# Altium footprint library con-commcon.PCBLIB: 18 footprints (part 1 of 2)
Each footprint in its own frame and in the unit in brackets; x right, y up, seen from the top. Pads: shape width x height; smd on the part's side, far side on the other; paste and mask are expansions set on the pad; w line width, h text height; cw(c..) or ccw(c..) is an arc to the next point about the centre after c.
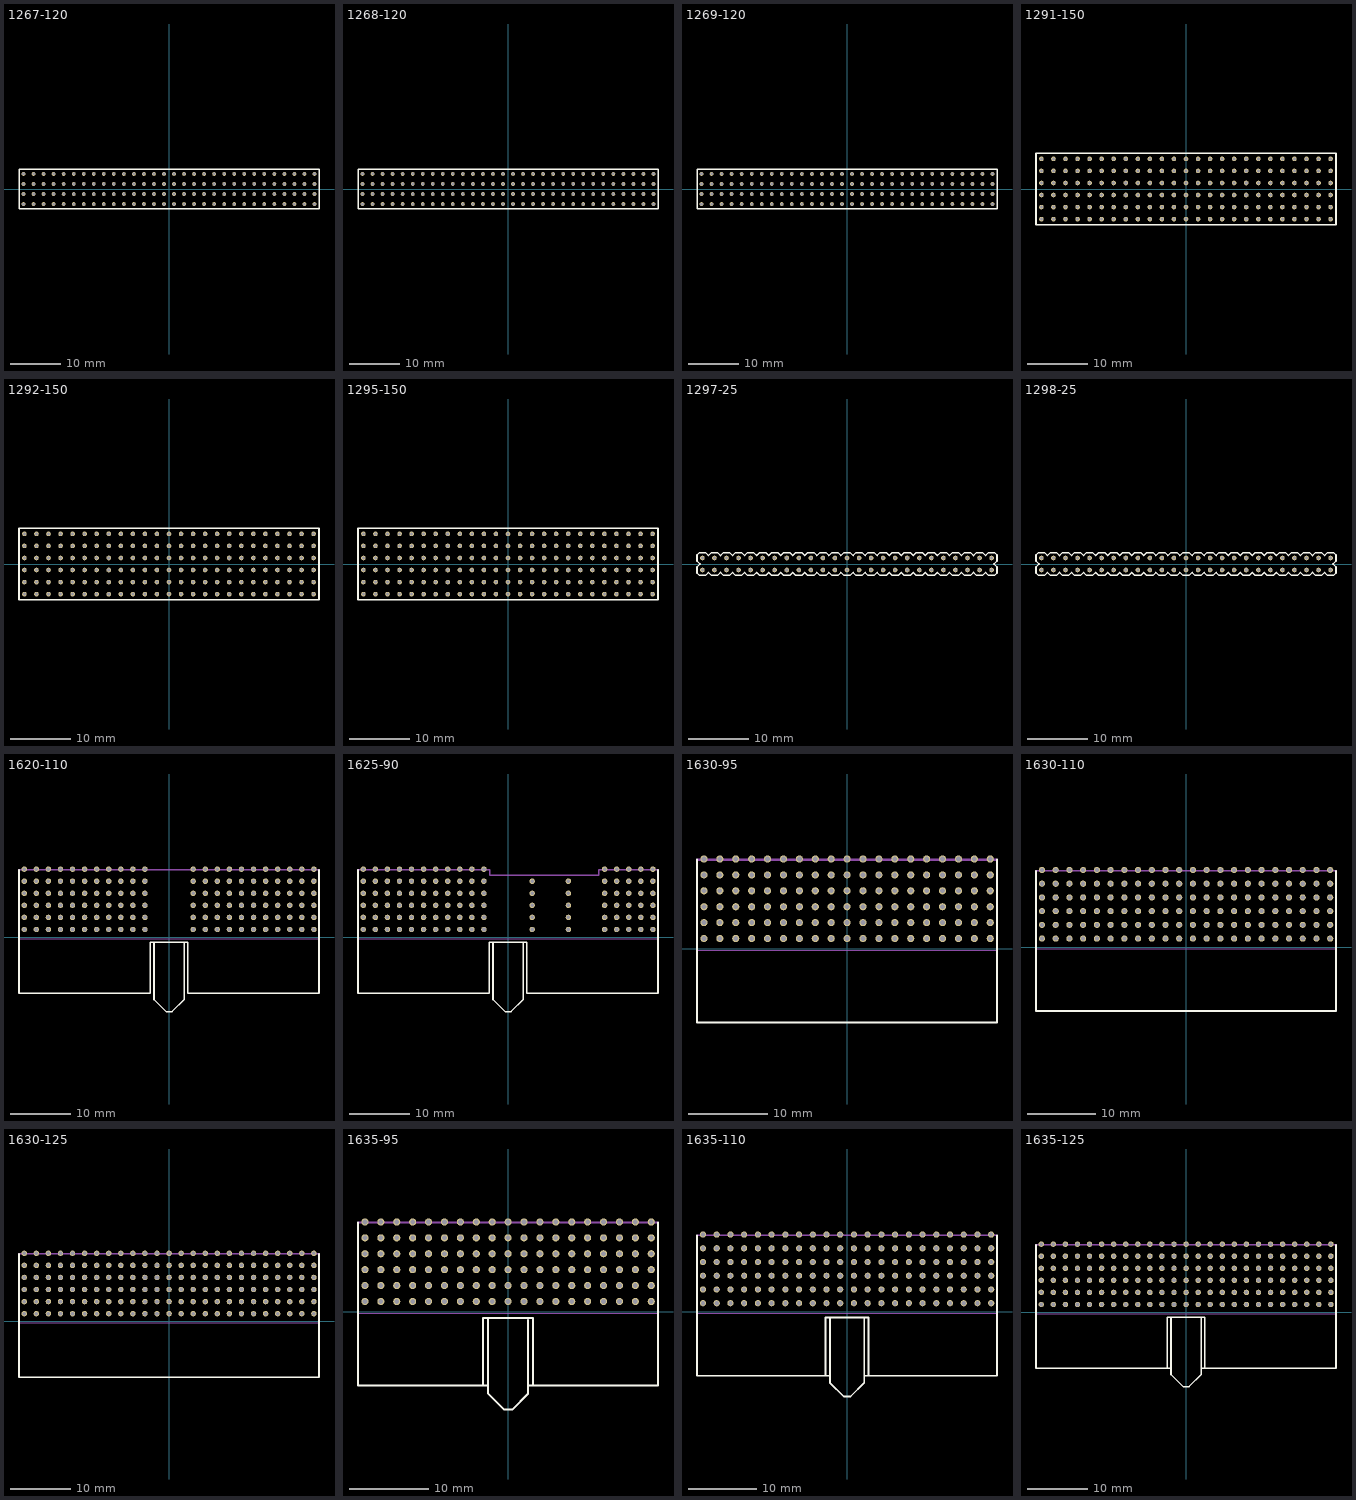
[diagram p0: the footprints below, top view; thin cyan lines are the x and y axes]

## 1267-120 [mil]
pads (120):
  round 30 hole 20: A1(-1141.73,-118.11) A2(-1062.99,-118.11) A3(-984.25,-118.11) A4(-905.51,-118.11) A5(-826.77,-118.11) A6(-748.03,-118.11) A7(-669.29,-118.11) A8(-590.55,-118.11) A9(-511.81,-118.11) A10(-433.07,-118.11) A11(-354.33,-118.11) A12(-275.59,-118.11) A13(-196.85,-118.11) A14(-118.11,-118.11) A15(-39.37,-118.11) A16(39.37,-118.11) A17(118.11,-118.11) A18(196.85,-118.11) A19(275.59,-118.11) A20(354.33,-118.11) A21(433.07,-118.11) A22(511.81,-118.11) A23(590.55,-118.11) A24(669.29,-118.11) A25(748.03,-118.11) A26(826.77,-118.11) A27(905.51,-118.11) A28(984.25,-118.11) A29(1062.99,-118.11) A30(1141.73,-118.11) B1(-1141.73,-39.37) B2(-1062.99,-39.37) B3(-984.25,-39.37) B4(-905.51,-39.37) B5(-826.77,-39.37) B6(-748.03,-39.37) B7(-669.29,-39.37) B8(-590.55,-39.37) B9(-511.81,-39.37) B10(-433.07,-39.37) B11(-354.33,-39.37) B12(-275.59,-39.37) B13(-196.85,-39.37) B14(-118.11,-39.37) B15(-39.37,-39.37) B16(39.37,-39.37) B17(118.11,-39.37) B18(196.85,-39.37) B19(275.59,-39.37) B20(354.33,-39.37) B21(433.07,-39.37) B22(511.81,-39.37) B23(590.55,-39.37) B24(669.29,-39.37) B25(748.03,-39.37) B26(826.77,-39.37) B27(905.51,-39.37) B28(984.25,-39.37) B29(1062.99,-39.37) B30(1141.73,-39.37) C1(-1141.73,39.37) C2(-1062.99,39.37) C3(-984.25,39.37) C4(-905.51,39.37) C5(-826.77,39.37) C6(-748.03,39.37) C7(-669.29,39.37) C8(-590.55,39.37) C9(-511.81,39.37) C10(-433.07,39.37) C11(-354.33,39.37) C12(-275.59,39.37) C13(-196.85,39.37) C14(-118.11,39.37) C15(-39.37,39.37) C16(39.37,39.37) C17(118.11,39.37) C18(196.85,39.37) C19(275.59,39.37) C20(354.33,39.37) C21(433.07,39.37) C22(511.81,39.37) C23(590.55,39.37) C24(669.29,39.37) C25(748.03,39.37) C26(826.77,39.37) C27(905.51,39.37) C28(984.25,39.37) C29(1062.99,39.37) C30(1141.73,39.37) D1(-1141.73,118.11) D2(-1062.99,118.11) D3(-984.25,118.11) D4(-905.51,118.11) D5(-826.77,118.11) D6(-748.03,118.11) D7(-669.29,118.11) D8(-590.55,118.11) D9(-511.81,118.11) D10(-433.07,118.11) D11(-354.33,118.11) D12(-275.59,118.11) D13(-196.85,118.11) D14(-118.11,118.11) D15(-39.37,118.11) D16(39.37,118.11) D17(118.11,118.11) D18(196.85,118.11) D19(275.59,118.11) D20(354.33,118.11) D21(433.07,118.11) D22(511.81,118.11) D23(590.55,118.11) D24(669.29,118.11) D25(748.03,118.11) D26(826.77,118.11) D27(905.51,118.11) D28(984.25,118.11) D29(1062.99,118.11) D30(1141.73,118.11)
Top Overlay:
  lines w10: -1177.17,-153.54 -1177.17,153.54 1177.17,153.54 1177.17,-153.54 -1177.17,-153.54

## 1268-120 [mil]
pads (120):
  round 30 hole 20: A1(-1141.73,-118.11) A2(-1062.99,-118.11) A3(-984.25,-118.11) A4(-905.51,-118.11) A5(-826.77,-118.11) A6(-748.03,-118.11) A7(-669.29,-118.11) A8(-590.55,-118.11) A9(-511.81,-118.11) A10(-433.07,-118.11) A11(-354.33,-118.11) A12(-275.59,-118.11) A13(-196.85,-118.11) A14(-118.11,-118.11) A15(-39.37,-118.11) A16(39.37,-118.11) A17(118.11,-118.11) A18(196.85,-118.11) A19(275.59,-118.11) A20(354.33,-118.11) A21(433.07,-118.11) A22(511.81,-118.11) A23(590.55,-118.11) A24(669.29,-118.11) A25(748.03,-118.11) A26(826.77,-118.11) A27(905.51,-118.11) A28(984.25,-118.11) A29(1062.99,-118.11) A30(1141.73,-118.11) B1(-1141.73,-39.37) B2(-1062.99,-39.37) B3(-984.25,-39.37) B4(-905.51,-39.37) B5(-826.77,-39.37) B6(-748.03,-39.37) B7(-669.29,-39.37) B8(-590.55,-39.37) B9(-511.81,-39.37) B10(-433.07,-39.37) B11(-354.33,-39.37) B12(-275.59,-39.37) B13(-196.85,-39.37) B14(-118.11,-39.37) B15(-39.37,-39.37) B16(39.37,-39.37) B17(118.11,-39.37) B18(196.85,-39.37) B19(275.59,-39.37) B20(354.33,-39.37) B21(433.07,-39.37) B22(511.81,-39.37) B23(590.55,-39.37) B24(669.29,-39.37) B25(748.03,-39.37) B26(826.77,-39.37) B27(905.51,-39.37) B28(984.25,-39.37) B29(1062.99,-39.37) B30(1141.73,-39.37) C1(-1141.73,39.37) C2(-1062.99,39.37) C3(-984.25,39.37) C4(-905.51,39.37) C5(-826.77,39.37) C6(-748.03,39.37) C7(-669.29,39.37) C8(-590.55,39.37) C9(-511.81,39.37) C10(-433.07,39.37) C11(-354.33,39.37) C12(-275.59,39.37) C13(-196.85,39.37) C14(-118.11,39.37) C15(-39.37,39.37) C16(39.37,39.37) C17(118.11,39.37) C18(196.85,39.37) C19(275.59,39.37) C20(354.33,39.37) C21(433.07,39.37) C22(511.81,39.37) C23(590.55,39.37) C24(669.29,39.37) C25(748.03,39.37) C26(826.77,39.37) C27(905.51,39.37) C28(984.25,39.37) C29(1062.99,39.37) C30(1141.73,39.37) D1(-1141.73,118.11) D2(-1062.99,118.11) D3(-984.25,118.11) D4(-905.51,118.11) D5(-826.77,118.11) D6(-748.03,118.11) D7(-669.29,118.11) D8(-590.55,118.11) D9(-511.81,118.11) D10(-433.07,118.11) D11(-354.33,118.11) D12(-275.59,118.11) D13(-196.85,118.11) D14(-118.11,118.11) D15(-39.37,118.11) D16(39.37,118.11) D17(118.11,118.11) D18(196.85,118.11) D19(275.59,118.11) D20(354.33,118.11) D21(433.07,118.11) D22(511.81,118.11) D23(590.55,118.11) D24(669.29,118.11) D25(748.03,118.11) D26(826.77,118.11) D27(905.51,118.11) D28(984.25,118.11) D29(1062.99,118.11) D30(1141.73,118.11)
Top Overlay:
  lines w10: -1177.17,-153.54 -1177.17,153.54 1177.17,153.54 1177.17,-153.54 -1177.17,-153.54

## 1269-120 [mil]
pads (120):
  round 30 hole 20: A1(-1141.73,-118.11) A2(-1062.99,-118.11) A3(-984.25,-118.11) A4(-905.51,-118.11) A5(-826.77,-118.11) A6(-748.03,-118.11) A7(-669.29,-118.11) A8(-590.55,-118.11) A9(-511.81,-118.11) A10(-433.07,-118.11) A11(-354.33,-118.11) A12(-275.59,-118.11) A13(-196.85,-118.11) A14(-118.11,-118.11) A15(-39.37,-118.11) A16(39.37,-118.11) A17(118.11,-118.11) A18(196.85,-118.11) A19(275.59,-118.11) A20(354.33,-118.11) A21(433.07,-118.11) A22(511.81,-118.11) A23(590.55,-118.11) A24(669.29,-118.11) A25(748.03,-118.11) A26(826.77,-118.11) A27(905.51,-118.11) A28(984.25,-118.11) A29(1062.99,-118.11) A30(1141.73,-118.11) B1(-1141.73,-39.37) B2(-1062.99,-39.37) B3(-984.25,-39.37) B4(-905.51,-39.37) B5(-826.77,-39.37) B6(-748.03,-39.37) B7(-669.29,-39.37) B8(-590.55,-39.37) B9(-511.81,-39.37) B10(-433.07,-39.37) B11(-354.33,-39.37) B12(-275.59,-39.37) B13(-196.85,-39.37) B14(-118.11,-39.37) B15(-39.37,-39.37) B16(39.37,-39.37) B17(118.11,-39.37) B18(196.85,-39.37) B19(275.59,-39.37) B20(354.33,-39.37) B21(433.07,-39.37) B22(511.81,-39.37) B23(590.55,-39.37) B24(669.29,-39.37) B25(748.03,-39.37) B26(826.77,-39.37) B27(905.51,-39.37) B28(984.25,-39.37) B29(1062.99,-39.37) B30(1141.73,-39.37) C1(-1141.73,39.37) C2(-1062.99,39.37) C3(-984.25,39.37) C4(-905.51,39.37) C5(-826.77,39.37) C6(-748.03,39.37) C7(-669.29,39.37) C8(-590.55,39.37) C9(-511.81,39.37) C10(-433.07,39.37) C11(-354.33,39.37) C12(-275.59,39.37) C13(-196.85,39.37) C14(-118.11,39.37) C15(-39.37,39.37) C16(39.37,39.37) C17(118.11,39.37) C18(196.85,39.37) C19(275.59,39.37) C20(354.33,39.37) C21(433.07,39.37) C22(511.81,39.37) C23(590.55,39.37) C24(669.29,39.37) C25(748.03,39.37) C26(826.77,39.37) C27(905.51,39.37) C28(984.25,39.37) C29(1062.99,39.37) C30(1141.73,39.37) D1(-1141.73,118.11) D2(-1062.99,118.11) D3(-984.25,118.11) D4(-905.51,118.11) D5(-826.77,118.11) D6(-748.03,118.11) D7(-669.29,118.11) D8(-590.55,118.11) D9(-511.81,118.11) D10(-433.07,118.11) D11(-354.33,118.11) D12(-275.59,118.11) D13(-196.85,118.11) D14(-118.11,118.11) D15(-39.37,118.11) D16(39.37,118.11) D17(118.11,118.11) D18(196.85,118.11) D19(275.59,118.11) D20(354.33,118.11) D21(433.07,118.11) D22(511.81,118.11) D23(590.55,118.11) D24(669.29,118.11) D25(748.03,118.11) D26(826.77,118.11) D27(905.51,118.11) D28(984.25,118.11) D29(1062.99,118.11) D30(1141.73,118.11)
Top Overlay:
  lines w10: -1177.17,-153.54 -1177.17,153.54 1177.17,153.54 1177.17,-153.54 -1177.17,-153.54

## 1291-150 [mil]
pads (150):
  round 30 hole 20: A1(-944.88,-196.85) A2(-866.14,-196.85) A3(-787.4,-196.85) A4(-708.66,-196.85) A5(-629.92,-196.85) A6(-551.18,-196.85) A7(-472.44,-196.85) A8(-393.7,-196.85) A9(-314.96,-196.85) A10(-236.22,-196.85) A11(-157.48,-196.85) A12(-78.74,-196.85) A13(0,-196.85) A14(78.74,-196.85) A15(157.48,-196.85) A16(236.22,-196.85) A17(314.96,-196.85) A18(393.7,-196.85) A19(472.44,-196.85) A20(551.18,-196.85) A21(629.92,-196.85) A22(708.66,-196.85) A23(787.4,-196.85) A24(866.14,-196.85) A25(944.88,-196.85) B1(-944.88,-118.11) B2(-866.14,-118.11) B3(-787.4,-118.11) B4(-708.66,-118.11) B5(-629.92,-118.11) B6(-551.18,-118.11) B7(-472.44,-118.11) B8(-393.7,-118.11) B9(-314.96,-118.11) B10(-236.22,-118.11) B11(-157.48,-118.11) B12(-78.74,-118.11) B13(0,-118.11) B14(78.74,-118.11) B15(157.48,-118.11) B16(236.22,-118.11) B17(314.96,-118.11) B18(393.7,-118.11) B19(472.44,-118.11) B20(551.18,-118.11) B21(629.92,-118.11) B22(708.66,-118.11) B23(787.4,-118.11) B24(866.14,-118.11) B25(944.88,-118.11) C1(-944.88,-39.37) C2(-866.14,-39.37) C3(-787.4,-39.37) C4(-708.66,-39.37) C5(-629.92,-39.37) C6(-551.18,-39.37) C7(-472.44,-39.37) C8(-393.7,-39.37) C9(-314.96,-39.37) C10(-236.22,-39.37) C11(-157.48,-39.37) C12(-78.74,-39.37) C13(0,-39.37) C14(78.74,-39.37) C15(157.48,-39.37) C16(236.22,-39.37) C17(314.96,-39.37) C18(393.7,-39.37) C19(472.44,-39.37) C20(551.18,-39.37) C21(629.92,-39.37) C22(708.66,-39.37) C23(787.4,-39.37) C24(866.14,-39.37) C25(944.88,-39.37) D1(-944.88,39.37) D2(-866.14,39.37) D3(-787.4,39.37) D4(-708.66,39.37) D5(-629.92,39.37) D6(-551.18,39.37) D7(-472.44,39.37) D8(-393.7,39.37) D9(-314.96,39.37) D10(-236.22,39.37) D11(-157.48,39.37) D12(-78.74,39.37) D13(0,39.37) D14(78.74,39.37) D15(157.48,39.37) D16(236.22,39.37) D17(314.96,39.37) D18(393.7,39.37) D19(472.44,39.37) D20(551.18,39.37) D21(629.92,39.37) D22(708.66,39.37) D23(787.4,39.37) D24(866.14,39.37) D25(944.88,39.37) E1(-944.88,118.11) E2(-866.14,118.11) E3(-787.4,118.11) E4(-708.66,118.11) E5(-629.92,118.11) E6(-551.18,118.11) E7(-472.44,118.11) E8(-393.7,118.11) E9(-314.96,118.11) E10(-236.22,118.11) E11(-157.48,118.11) E12(-78.74,118.11) E13(0,118.11) E14(78.74,118.11) E15(157.48,118.11) E16(236.22,118.11) E17(314.96,118.11) E18(393.7,118.11) E19(472.44,118.11) E20(551.18,118.11) E21(629.92,118.11) E22(708.66,118.11) E23(787.4,118.11) E24(866.14,118.11) E25(944.88,118.11) F1(-944.88,196.85) F2(-866.14,196.85) F3(-787.4,196.85) F4(-708.66,196.85) F5(-629.92,196.85) F6(-551.18,196.85) F7(-472.44,196.85) F8(-393.7,196.85) F9(-314.96,196.85) F10(-236.22,196.85) F11(-157.48,196.85) F12(-78.74,196.85) F13(0,196.85) F14(78.74,196.85) F15(157.48,196.85) F16(236.22,196.85) F17(314.96,196.85) F18(393.7,196.85) F19(472.44,196.85) F20(551.18,196.85) F21(629.92,196.85) F22(708.66,196.85) F23(787.4,196.85) F24(866.14,196.85) F25(944.88,196.85)
Top Overlay:
  lines w10: -980.32,-232.28 -980.32,232.28 980.32,232.28 980.32,-232.28 -980.32,-232.28

## 1292-150 [mil]
pads (150):
  round 30 hole 20: A1(-944.88,-196.85) A2(-866.14,-196.85) A3(-787.4,-196.85) A4(-708.66,-196.85) A5(-629.92,-196.85) A6(-551.18,-196.85) A7(-472.44,-196.85) A8(-393.7,-196.85) A9(-314.96,-196.85) A10(-236.22,-196.85) A11(-157.48,-196.85) A12(-78.74,-196.85) A13(0,-196.85) A14(78.74,-196.85) A15(157.48,-196.85) A16(236.22,-196.85) A17(314.96,-196.85) A18(393.7,-196.85) A19(472.44,-196.85) A20(551.18,-196.85) A21(629.92,-196.85) A22(708.66,-196.85) A23(787.4,-196.85) A24(866.14,-196.85) A25(944.88,-196.85) B1(-944.88,-118.11) B2(-866.14,-118.11) B3(-787.4,-118.11) B4(-708.66,-118.11) B5(-629.92,-118.11) B6(-551.18,-118.11) B7(-472.44,-118.11) B8(-393.7,-118.11) B9(-314.96,-118.11) B10(-236.22,-118.11) B11(-157.48,-118.11) B12(-78.74,-118.11) B13(0,-118.11) B14(78.74,-118.11) B15(157.48,-118.11) B16(236.22,-118.11) B17(314.96,-118.11) B18(393.7,-118.11) B19(472.44,-118.11) B20(551.18,-118.11) B21(629.92,-118.11) B22(708.66,-118.11) B23(787.4,-118.11) B24(866.14,-118.11) B25(944.88,-118.11) C1(-944.88,-39.37) C2(-866.14,-39.37) C3(-787.4,-39.37) C4(-708.66,-39.37) C5(-629.92,-39.37) C6(-551.18,-39.37) C7(-472.44,-39.37) C8(-393.7,-39.37) C9(-314.96,-39.37) C10(-236.22,-39.37) C11(-157.48,-39.37) C12(-78.74,-39.37) C13(0,-39.37) C14(78.74,-39.37) C15(157.48,-39.37) C16(236.22,-39.37) C17(314.96,-39.37) C18(393.7,-39.37) C19(472.44,-39.37) C20(551.18,-39.37) C21(629.92,-39.37) C22(708.66,-39.37) C23(787.4,-39.37) C24(866.14,-39.37) C25(944.88,-39.37) D1(-944.88,39.37) D2(-866.14,39.37) D3(-787.4,39.37) D4(-708.66,39.37) D5(-629.92,39.37) D6(-551.18,39.37) D7(-472.44,39.37) D8(-393.7,39.37) D9(-314.96,39.37) D10(-236.22,39.37) D11(-157.48,39.37) D12(-78.74,39.37) D13(0,39.37) D14(78.74,39.37) D15(157.48,39.37) D16(236.22,39.37) D17(314.96,39.37) D18(393.7,39.37) D19(472.44,39.37) D20(551.18,39.37) D21(629.92,39.37) D22(708.66,39.37) D23(787.4,39.37) D24(866.14,39.37) D25(944.88,39.37) E1(-944.88,118.11) E2(-866.14,118.11) E3(-787.4,118.11) E4(-708.66,118.11) E5(-629.92,118.11) E6(-551.18,118.11) E7(-472.44,118.11) E8(-393.7,118.11) E9(-314.96,118.11) E10(-236.22,118.11) E11(-157.48,118.11) E12(-78.74,118.11) E13(0,118.11) E14(78.74,118.11) E15(157.48,118.11) E16(236.22,118.11) E17(314.96,118.11) E18(393.7,118.11) E19(472.44,118.11) E20(551.18,118.11) E21(629.92,118.11) E22(708.66,118.11) E23(787.4,118.11) E24(866.14,118.11) E25(944.88,118.11) F1(-944.88,196.85) F2(-866.14,196.85) F3(-787.4,196.85) F4(-708.66,196.85) F5(-629.92,196.85) F6(-551.18,196.85) F7(-472.44,196.85) F8(-393.7,196.85) F9(-314.96,196.85) F10(-236.22,196.85) F11(-157.48,196.85) F12(-78.74,196.85) F13(0,196.85) F14(78.74,196.85) F15(157.48,196.85) F16(236.22,196.85) F17(314.96,196.85) F18(393.7,196.85) F19(472.44,196.85) F20(551.18,196.85) F21(629.92,196.85) F22(708.66,196.85) F23(787.4,196.85) F24(866.14,196.85) F25(944.88,196.85)
Top Overlay:
  lines w10: -980.32,-232.28 -980.32,232.28 980.32,232.28 980.32,-232.28 -980.32,-232.28

## 1295-150 [mil]
pads (150):
  round 30 hole 20: A1(-944.88,-196.85) A2(-866.14,-196.85) A3(-787.4,-196.85) A4(-708.66,-196.85) A5(-629.92,-196.85) A6(-551.18,-196.85) A7(-472.44,-196.85) A8(-393.7,-196.85) A9(-314.96,-196.85) A10(-236.22,-196.85) A11(-157.48,-196.85) A12(-78.74,-196.85) A13(0,-196.85) A14(78.74,-196.85) A15(157.48,-196.85) A16(236.22,-196.85) A17(314.96,-196.85) A18(393.7,-196.85) A19(472.44,-196.85) A20(551.18,-196.85) A21(629.92,-196.85) A22(708.66,-196.85) A23(787.4,-196.85) A24(866.14,-196.85) A25(944.88,-196.85) B1(-944.88,-118.11) B2(-866.14,-118.11) B3(-787.4,-118.11) B4(-708.66,-118.11) B5(-629.92,-118.11) B6(-551.18,-118.11) B7(-472.44,-118.11) B8(-393.7,-118.11) B9(-314.96,-118.11) B10(-236.22,-118.11) B11(-157.48,-118.11) B12(-78.74,-118.11) B13(0,-118.11) B14(78.74,-118.11) B15(157.48,-118.11) B16(236.22,-118.11) B17(314.96,-118.11) B18(393.7,-118.11) B19(472.44,-118.11) B20(551.18,-118.11) B21(629.92,-118.11) B22(708.66,-118.11) B23(787.4,-118.11) B24(866.14,-118.11) B25(944.88,-118.11) C1(-944.88,-39.37) C2(-866.14,-39.37) C3(-787.4,-39.37) C4(-708.66,-39.37) C5(-629.92,-39.37) C6(-551.18,-39.37) C7(-472.44,-39.37) C8(-393.7,-39.37) C9(-314.96,-39.37) C10(-236.22,-39.37) C11(-157.48,-39.37) C12(-78.74,-39.37) C13(0,-39.37) C14(78.74,-39.37) C15(157.48,-39.37) C16(236.22,-39.37) C17(314.96,-39.37) C18(393.7,-39.37) C19(472.44,-39.37) C20(551.18,-39.37) C21(629.92,-39.37) C22(708.66,-39.37) C23(787.4,-39.37) C24(866.14,-39.37) C25(944.88,-39.37) D1(-944.88,39.37) D2(-866.14,39.37) D3(-787.4,39.37) D4(-708.66,39.37) D5(-629.92,39.37) D6(-551.18,39.37) D7(-472.44,39.37) D8(-393.7,39.37) D9(-314.96,39.37) D10(-236.22,39.37) D11(-157.48,39.37) D12(-78.74,39.37) D13(0,39.37) D14(78.74,39.37) D15(157.48,39.37) D16(236.22,39.37) D17(314.96,39.37) D18(393.7,39.37) D19(472.44,39.37) D20(551.18,39.37) D21(629.92,39.37) D22(708.66,39.37) D23(787.4,39.37) D24(866.14,39.37) D25(944.88,39.37) E1(-944.88,118.11) E2(-866.14,118.11) E3(-787.4,118.11) E4(-708.66,118.11) E5(-629.92,118.11) E6(-551.18,118.11) E7(-472.44,118.11) E8(-393.7,118.11) E9(-314.96,118.11) E10(-236.22,118.11) E11(-157.48,118.11) E12(-78.74,118.11) E13(0,118.11) E14(78.74,118.11) E15(157.48,118.11) E16(236.22,118.11) E17(314.96,118.11) E18(393.7,118.11) E19(472.44,118.11) E20(551.18,118.11) E21(629.92,118.11) E22(708.66,118.11) E23(787.4,118.11) E24(866.14,118.11) E25(944.88,118.11) F1(-944.88,196.85) F2(-866.14,196.85) F3(-787.4,196.85) F4(-708.66,196.85) F5(-629.92,196.85) F6(-551.18,196.85) F7(-472.44,196.85) F8(-393.7,196.85) F9(-314.96,196.85) F10(-236.22,196.85) F11(-157.48,196.85) F12(-78.74,196.85) F13(0,196.85) F14(78.74,196.85) F15(157.48,196.85) F16(236.22,196.85) F17(314.96,196.85) F18(393.7,196.85) F19(472.44,196.85) F20(551.18,196.85) F21(629.92,196.85) F22(708.66,196.85) F23(787.4,196.85) F24(866.14,196.85) F25(944.88,196.85)
Top Overlay:
  lines w10: -980.32,-232.28 -980.32,232.28 980.32,232.28 980.32,-232.28 -980.32,-232.28

## 1297-25 [mil]
pads (50):
  round 30 hole 20: A1(-944.88,-39.37) A2(-866.14,-39.37) A3(-787.4,-39.37) A4(-708.66,-39.37) A5(-629.92,-39.37) A6(-551.18,-39.37) A7(-472.44,-39.37) A8(-393.7,-39.37) A9(-314.96,-39.37) A10(-236.22,-39.37) A11(-157.48,-39.37) A12(-78.74,-39.37) A13(0,-39.37) A14(78.74,-39.37) A15(157.48,-39.37) A16(236.22,-39.37) A17(314.96,-39.37) A18(393.7,-39.37) A19(472.44,-39.37) A20(551.18,-39.37) A21(629.92,-39.37) A22(708.66,-39.37) A23(787.4,-39.37) A24(866.14,-39.37) A25(944.88,-39.37) B1(-944.88,39.37) B2(-866.14,39.37) B3(-787.4,39.37) B4(-708.66,39.37) B5(-629.92,39.37) B6(-551.18,39.37) B7(-472.44,39.37) B8(-393.7,39.37) B9(-314.96,39.37) B10(-236.22,39.37) B11(-157.48,39.37) B12(-78.74,39.37) B13(0,39.37) B14(78.74,39.37) B15(157.48,39.37) B16(236.22,39.37) B17(314.96,39.37) B18(393.7,39.37) B19(472.44,39.37) B20(551.18,39.37) B21(629.92,39.37) B22(708.66,39.37) B23(787.4,39.37) B24(866.14,39.37) B25(944.88,39.37)
Top Overlay:
  drawing of 158 lines, arcs and shapes, not listed

## 1298-25 [mil]
pads (50):
  round 30 hole 20: A1(-944.88,-39.37) A2(-866.14,-39.37) A3(-787.4,-39.37) A4(-708.66,-39.37) A5(-629.92,-39.37) A6(-551.18,-39.37) A7(-472.44,-39.37) A8(-393.7,-39.37) A9(-314.96,-39.37) A10(-236.22,-39.37) A11(-157.48,-39.37) A12(-78.74,-39.37) A13(0,-39.37) A14(78.74,-39.37) A15(157.48,-39.37) A16(236.22,-39.37) A17(314.96,-39.37) A18(393.7,-39.37) A19(472.44,-39.37) A20(551.18,-39.37) A21(629.92,-39.37) A22(708.66,-39.37) A23(787.4,-39.37) A24(866.14,-39.37) A25(944.88,-39.37) B1(-944.88,39.37) B2(-866.14,39.37) B3(-787.4,39.37) B4(-708.66,39.37) B5(-629.92,39.37) B6(-551.18,39.37) B7(-472.44,39.37) B8(-393.7,39.37) B9(-314.96,39.37) B10(-236.22,39.37) B11(-157.48,39.37) B12(-78.74,39.37) B13(0,39.37) B14(78.74,39.37) B15(157.48,39.37) B16(236.22,39.37) B17(314.96,39.37) B18(393.7,39.37) B19(472.44,39.37) B20(551.18,39.37) B21(629.92,39.37) B22(708.66,39.37) B23(787.4,39.37) B24(866.14,39.37) B25(944.88,39.37)
Top Overlay:
  drawing of 158 lines, arcs and shapes, not listed

## 1620-110 [mm]
pads (132):
  round 0.9 hole 0.6: A1(24,1.27) A2(22,1.27) A3(20,1.27) A4(18,1.27) A5(16,1.27) A6(14,1.27) A7(12,1.27) A8(10,1.27) A9(8,1.27) A10(6,1.27) A11(4,1.27) A12(-4,1.27) A13(-6,1.27) A14(-8,1.27) A15(-10,1.27) A16(-12,1.27) A17(-14,1.27) A18(-16,1.27) A19(-18,1.27) A20(-20,1.27) A21(-22,1.27) A22(-24,1.27) B1(24,3.27) B2(22,3.27) B3(20,3.27) B4(18,3.27) B5(16,3.27) B6(14,3.27) B7(12,3.27) B8(10,3.27) B9(8,3.27) B10(6,3.27) B11(4,3.27) B12(-4,3.27) B13(-6,3.27) B14(-8,3.27) B15(-10,3.27) B16(-12,3.27) B17(-14,3.27) B18(-16,3.27) B19(-18,3.27) B20(-20,3.27) B21(-22,3.27) B22(-24,3.27) C1(24,5.27) C2(22,5.27) C3(20,5.27) C4(18,5.27) C5(16,5.27) C6(14,5.27) C7(12,5.27) C8(10,5.27) C9(8,5.27) C10(6,5.27) C11(4,5.27) C12(-4,5.27) C13(-6,5.27) C14(-8,5.27) C15(-10,5.27) C16(-12,5.27) C17(-14,5.27) C18(-16,5.27) C19(-18,5.27) C20(-20,5.27) C21(-22,5.27) C22(-24,5.27) D1(24,7.27) D2(22,7.27) D3(20,7.27) D4(18,7.27) D5(16,7.27) D6(14,7.27) D7(12,7.27) D8(10,7.27) D9(8,7.27) D10(6,7.27) D11(4,7.27) D12(-4,7.27) D13(-6,7.27) D14(-8,7.27) D15(-10,7.27) D16(-12,7.27) D17(-14,7.27) D18(-16,7.27) D19(-18,7.27) D20(-20,7.27) D21(-22,7.27) D22(-24,7.27) E1(24,9.27) E2(22,9.27) E3(20,9.27) E4(18,9.27) E5(16,9.27) E6(14,9.27) E7(12,9.27) E8(10,9.27) E9(8,9.27) E10(6,9.27) E11(4,9.27) E12(-4,9.27) E13(-6,9.27) E14(-8,9.27) E15(-10,9.27) E16(-12,9.27) E17(-14,9.27) E18(-16,9.27) E19(-18,9.27) E20(-20,9.27) E21(-22,9.27) E22(-24,9.27) F1(24,11.27) F2(22,11.27) F3(20,11.27) F4(18,11.27) F5(16,11.27) F6(14,11.27) F7(12,11.27) F8(10,11.27) F9(8,11.27) F10(6,11.27) F11(4,11.27) F12(-4,11.27) F13(-6,11.27) F14(-8,11.27) F15(-10,11.27) F16(-12,11.27) F17(-14,11.27) F18(-16,11.27) F19(-18,11.27) F20(-20,11.27) F21(-22,11.27) F22(-24,11.27)
Top Overlay:
  lines w0.254: -24.872,11.176 -24.872,-9.296 -3.153,-9.296 -3.153,-0.824 ; -3.1,-0.83 3.1,-0.83 ; -2.5,-0.93 -2.5,-10.33 -0.5,-12.33 0.5,-12.33 2.5,-10.33 2.5,-1.03 ; 3.128,-0.824 3.128,-9.296 24.847,-9.296 24.847,11.176
Mechanical 1:
  lines w0.051: -24.789,-0.23 24.789,-0.23
Mechanical 16:
  lines w0.254: -24.872,11.176 24.847,11.176

## 1625-90 [mm]
pads (106):
  round 0.9 hole 0.6: A1(24,1.27) A2(22,1.27) A3(20,1.27) A4(18,1.27) A5(16,1.27) A8(10,1.27) A11(4,1.27) A12(-4,1.27) A13(-6,1.27) A14(-8,1.27) A15(-10,1.27) A16(-12,1.27) A17(-14,1.27) A18(-16,1.27) A19(-18,1.27) A20(-20,1.27) A21(-22,1.27) A22(-24,1.27) B1(24,3.27) B2(22,3.27) B3(20,3.27) B4(18,3.27) B5(16,3.27) B8(10,3.27) B11(4,3.27) B12(-4,3.27) B13(-6,3.27) B14(-8,3.27) B15(-10,3.27) B16(-12,3.27) B17(-14,3.27) B18(-16,3.27) B19(-18,3.27) B20(-20,3.27) B21(-22,3.27) B22(-24,3.27) C1(24,5.27) C2(22,5.27) C3(20,5.27) C4(18,5.27) C5(16,5.27) C8(10,5.27) C11(4,5.27) C12(-4,5.27) C13(-6,5.27) C14(-8,5.27) C15(-10,5.27) C16(-12,5.27) C17(-14,5.27) C18(-16,5.27) C19(-18,5.27) C20(-20,5.27) C21(-22,5.27) C22(-24,5.27) D1(24,7.27) D2(22,7.27) D3(20,7.27) D4(18,7.27) D5(16,7.27) D8(10,7.27) D11(4,7.27) D12(-4,7.27) D13(-6,7.27) D14(-8,7.27) D15(-10,7.27) D16(-12,7.27) D17(-14,7.27) D18(-16,7.27) D19(-18,7.27) D20(-20,7.27) D21(-22,7.27) D22(-24,7.27) E1(24,9.27) E2(22,9.27) E3(20,9.27) E4(18,9.27) E5(16,9.27) E8(10,9.27) E11(4,9.27) E12(-4,9.27) E13(-6,9.27) E14(-8,9.27) E15(-10,9.27) E16(-12,9.27) E17(-14,9.27) E18(-16,9.27) E19(-18,9.27) E20(-20,9.27) E21(-22,9.27) E22(-24,9.27) F1(24,11.27) F2(22,11.27) F3(20,11.27) F4(18,11.27) F5(16,11.27) F12(-4,11.27) F13(-6,11.27) F14(-8,11.27) F15(-10,11.27) F16(-12,11.27) F17(-14,11.27) F18(-16,11.27) F19(-18,11.27) F20(-20,11.27) F21(-22,11.27) F22(-24,11.27)
Top Overlay:
  lines w0.254: -24.872,11.176 -24.872,-9.296 -3.153,-9.296 -3.153,-0.824 ; -3.1,-0.83 3.1,-0.83 ; -2.5,-0.93 -2.5,-10.33 -0.5,-12.33 0.5,-12.33 2.5,-10.33 2.5,-1.03 ; 3.128,-0.824 3.128,-9.296 24.847,-9.296 24.847,11.176
Mechanical 1:
  lines w0.051: -24.789,-0.23 24.789,-0.23
Mechanical 16:
  lines w0.254: -24.872,11.176 -3,11.176 -3,10.27 15,10.27 15,11.176 24.847,11.176

## 1630-95 [mm]
pads (114):
  round 0.9 hole 0.6: A1(18,1.27) A2(16,1.27) A3(14,1.27) A4(12,1.27) A5(10,1.27) A6(8,1.27) A7(6,1.27) A8(4,1.27) A9(2,1.27) A10(0,1.27) A11(-2,1.27) A12(-4,1.27) A13(-6,1.27) A14(-8,1.27) A15(-10,1.27) A16(-12,1.27) A17(-14,1.27) A18(-16,1.27) A19(-18,1.27) B1(18,3.27) B2(16,3.27) B3(14,3.27) B4(12,3.27) B5(10,3.27) B6(8,3.27) B7(6,3.27) B8(4,3.27) B9(2,3.27) B10(0,3.27) B11(-2,3.27) B12(-4,3.27) B13(-6,3.27) B14(-8,3.27) B15(-10,3.27) B16(-12,3.27) B17(-14,3.27) B18(-16,3.27) B19(-18,3.27) C1(18,5.27) C2(16,5.27) C3(14,5.27) C4(12,5.27) C5(10,5.27) C6(8,5.27) C7(6,5.27) C8(4,5.27) C9(2,5.27) C10(0,5.27) C11(-2,5.27) C12(-4,5.27) C13(-6,5.27) C14(-8,5.27) C15(-10,5.27) C16(-12,5.27) C17(-14,5.27) C18(-16,5.27) C19(-18,5.27) D1(18,7.27) D2(16,7.27) D3(14,7.27) D4(12,7.27) D5(10,7.27) D6(8,7.27) D7(6,7.27) D8(4,7.27) D9(2,7.27) D10(0,7.27) D11(-2,7.27) D12(-4,7.27) D13(-6,7.27) D14(-8,7.27) D15(-10,7.27) D16(-12,7.27) D17(-14,7.27) D18(-16,7.27) D19(-18,7.27) E1(18,9.27) E2(16,9.27) E3(14,9.27) E4(12,9.27) E5(10,9.27) E6(8,9.27) E7(6,9.27) E8(4,9.27) E9(2,9.27) E10(0,9.27) E11(-2,9.27) E12(-4,9.27) E13(-6,9.27) E14(-8,9.27) E15(-10,9.27) E16(-12,9.27) E17(-14,9.27) E18(-16,9.27) E19(-18,9.27) F1(18,11.27) F2(16,11.27) F3(14,11.27) F4(12,11.27) F5(10,11.27) F6(8,11.27) F7(6,11.27) F8(4,11.27) F9(2,11.27) F10(0,11.27) F11(-2,11.27) F12(-4,11.27) F13(-6,11.27) F14(-8,11.27) F15(-10,11.27) F16(-12,11.27) F17(-14,11.27) F18(-16,11.27) F19(-18,11.27)
Top Overlay:
  lines w0.254: -18.872,11.176 -18.872,-9.296 18.847,-9.296 18.847,11.176
Mechanical 1:
  lines w0.051: -18.789,-0.23 18.789,-0.23
Mechanical 16:
  lines w0.254: -18.872,11.176 18.847,11.176

## 1630-110 [mm]
pads (132):
  round 0.9 hole 0.6: A1(21,1.27) A2(19,1.27) A3(17,1.27) A4(15,1.27) A5(13,1.27) A6(11,1.27) A7(9,1.27) A8(7,1.27) A9(5,1.27) A10(3,1.27) A11(1,1.27) A12(-1,1.27) A13(-3,1.27) A14(-5,1.27) A15(-7,1.27) A16(-9,1.27) A17(-11,1.27) A18(-13,1.27) A19(-15,1.27) A20(-17,1.27) A21(-19,1.27) A22(-21,1.27) B1(21,3.27) B2(19,3.27) B3(17,3.27) B4(15,3.27) B5(13,3.27) B6(11,3.27) B7(9,3.27) B8(7,3.27) B9(5,3.27) B10(3,3.27) B11(1,3.27) B12(-1,3.27) B13(-3,3.27) B14(-5,3.27) B15(-7,3.27) B16(-9,3.27) B17(-11,3.27) B18(-13,3.27) B19(-15,3.27) B20(-17,3.27) B21(-19,3.27) B22(-21,3.27) C1(21,5.27) C2(19,5.27) C3(17,5.27) C4(15,5.27) C5(13,5.27) C6(11,5.27) C7(9,5.27) C8(7,5.27) C9(5,5.27) C10(3,5.27) C11(1,5.27) C12(-1,5.27) C13(-3,5.27) C14(-5,5.27) C15(-7,5.27) C16(-9,5.27) C17(-11,5.27) C18(-13,5.27) C19(-15,5.27) C20(-17,5.27) C21(-19,5.27) C22(-21,5.27) D1(21,7.27) D2(19,7.27) D3(17,7.27) D4(15,7.27) D5(13,7.27) D6(11,7.27) D7(9,7.27) D8(7,7.27) D9(5,7.27) D10(3,7.27) D11(1,7.27) D12(-1,7.27) D13(-3,7.27) D14(-5,7.27) D15(-7,7.27) D16(-9,7.27) D17(-11,7.27) D18(-13,7.27) D19(-15,7.27) D20(-17,7.27) D21(-19,7.27) D22(-21,7.27) E1(21,9.27) E2(19,9.27) E3(17,9.27) E4(15,9.27) E5(13,9.27) E6(11,9.27) E7(9,9.27) E8(7,9.27) E9(5,9.27) E10(3,9.27) E11(1,9.27) E12(-1,9.27) E13(-3,9.27) E14(-5,9.27) E15(-7,9.27) E16(-9,9.27) E17(-11,9.27) E18(-13,9.27) E19(-15,9.27) E20(-17,9.27) E21(-19,9.27) E22(-21,9.27) F1(21,11.27) F2(19,11.27) F3(17,11.27) F4(15,11.27) F5(13,11.27) F6(11,11.27) F7(9,11.27) F8(7,11.27) F9(5,11.27) F10(3,11.27) F11(1,11.27) F12(-1,11.27) F13(-3,11.27) F14(-5,11.27) F15(-7,11.27) F16(-9,11.27) F17(-11,11.27) F18(-13,11.27) F19(-15,11.27) F20(-17,11.27) F21(-19,11.27) F22(-21,11.27)
Top Overlay:
  lines w0.254: -21.872,11.176 -21.872,-9.296 21.847,-9.296 21.847,11.176
Mechanical 1:
  lines w0.051: -21.789,-0.23 21.789,-0.23
Mechanical 16:
  lines w0.254: -21.872,11.176 21.847,11.176

## 1630-125 [mm]
pads (150):
  round 0.9 hole 0.6: A1(24,1.27) A2(22,1.27) A3(20,1.27) A4(18,1.27) A5(16,1.27) A6(14,1.27) A7(12,1.27) A8(10,1.27) A9(8,1.27) A10(6,1.27) A11(4,1.27) A12(2,1.27) A13(0,1.27) A14(-2,1.27) A15(-4,1.27) A16(-6,1.27) A17(-8,1.27) A18(-10,1.27) A19(-12,1.27) A20(-14,1.27) A21(-16,1.27) A22(-18,1.27) A23(-20,1.27) A24(-22,1.27) A25(-24,1.27) B1(24,3.27) B2(22,3.27) B3(20,3.27) B4(18,3.27) B5(16,3.27) B6(14,3.27) B7(12,3.27) B8(10,3.27) B9(8,3.27) B10(6,3.27) B11(4,3.27) B12(2,3.27) B13(0,3.27) B14(-2,3.27) B15(-4,3.27) B16(-6,3.27) B17(-8,3.27) B18(-10,3.27) B19(-12,3.27) B20(-14,3.27) B21(-16,3.27) B22(-18,3.27) B23(-20,3.27) B24(-22,3.27) B25(-24,3.27) C1(24,5.27) C2(22,5.27) C3(20,5.27) C4(18,5.27) C5(16,5.27) C6(14,5.27) C7(12,5.27) C8(10,5.27) C9(8,5.27) C10(6,5.27) C11(4,5.27) C12(2,5.27) C13(0,5.27) C14(-2,5.27) C15(-4,5.27) C16(-6,5.27) C17(-8,5.27) C18(-10,5.27) C19(-12,5.27) C20(-14,5.27) C21(-16,5.27) C22(-18,5.27) C23(-20,5.27) C24(-22,5.27) C25(-24,5.27) D1(24,7.27) D2(22,7.27) D3(20,7.27) D4(18,7.27) D5(16,7.27) D6(14,7.27) D7(12,7.27) D8(10,7.27) D9(8,7.27) D10(6,7.27) D11(4,7.27) D12(2,7.27) D13(0,7.27) D14(-2,7.27) D15(-4,7.27) D16(-6,7.27) D17(-8,7.27) D18(-10,7.27) D19(-12,7.27) D20(-14,7.27) D21(-16,7.27) D22(-18,7.27) D23(-20,7.27) D24(-22,7.27) D25(-24,7.27) E1(24,9.27) E2(22,9.27) E3(20,9.27) E4(18,9.27) E5(16,9.27) E6(14,9.27) E7(12,9.27) E8(10,9.27) E9(8,9.27) E10(6,9.27) E11(4,9.27) E12(2,9.27) E13(0,9.27) E14(-2,9.27) E15(-4,9.27) E16(-6,9.27) E17(-8,9.27) E18(-10,9.27) E19(-12,9.27) E20(-14,9.27) E21(-16,9.27) E22(-18,9.27) E23(-20,9.27) E24(-22,9.27) E25(-24,9.27) F1(24,11.27) F2(22,11.27) F3(20,11.27) F4(18,11.27) F5(16,11.27) F6(14,11.27) F7(12,11.27) F8(10,11.27) F9(8,11.27) F10(6,11.27) F11(4,11.27) F12(2,11.27) F13(0,11.27) F14(-2,11.27) F15(-4,11.27) F16(-6,11.27) F17(-8,11.27) F18(-10,11.27) F19(-12,11.27) F20(-14,11.27) F21(-16,11.27) F22(-18,11.27) F23(-20,11.27) F24(-22,11.27) F25(-24,11.27)
Top Overlay:
  lines w0.254: -24.872,11.176 -24.872,-9.296 24.847,-9.296 24.847,11.176
Mechanical 1:
  lines w0.051: -24.789,-0.23 24.789,-0.23
Mechanical 16:
  lines w0.254: -24.872,11.176 24.847,11.176

## 1635-95 [mm]
pads (114):
  round 0.9 hole 0.6: A1(18,1.27) A2(16,1.27) A3(14,1.27) A4(12,1.27) A5(10,1.27) A6(8,1.27) A7(6,1.27) A8(4,1.27) A9(2,1.27) A10(0,1.27) A11(-2,1.27) A12(-4,1.27) A13(-6,1.27) A14(-8,1.27) A15(-10,1.27) A16(-12,1.27) A17(-14,1.27) A18(-16,1.27) A19(-18,1.27) B1(18,3.27) B2(16,3.27) B3(14,3.27) B4(12,3.27) B5(10,3.27) B6(8,3.27) B7(6,3.27) B8(4,3.27) B9(2,3.27) B10(0,3.27) B11(-2,3.27) B12(-4,3.27) B13(-6,3.27) B14(-8,3.27) B15(-10,3.27) B16(-12,3.27) B17(-14,3.27) B18(-16,3.27) B19(-18,3.27) C1(18,5.27) C2(16,5.27) C3(14,5.27) C4(12,5.27) C5(10,5.27) C6(8,5.27) C7(6,5.27) C8(4,5.27) C9(2,5.27) C10(0,5.27) C11(-2,5.27) C12(-4,5.27) C13(-6,5.27) C14(-8,5.27) C15(-10,5.27) C16(-12,5.27) C17(-14,5.27) C18(-16,5.27) C19(-18,5.27) D1(18,7.27) D2(16,7.27) D3(14,7.27) D4(12,7.27) D5(10,7.27) D6(8,7.27) D7(6,7.27) D8(4,7.27) D9(2,7.27) D10(0,7.27) D11(-2,7.27) D12(-4,7.27) D13(-6,7.27) D14(-8,7.27) D15(-10,7.27) D16(-12,7.27) D17(-14,7.27) D18(-16,7.27) D19(-18,7.27) E1(18,9.27) E2(16,9.27) E3(14,9.27) E4(12,9.27) E5(10,9.27) E6(8,9.27) E7(6,9.27) E8(4,9.27) E9(2,9.27) E10(0,9.27) E11(-2,9.27) E12(-4,9.27) E13(-6,9.27) E14(-8,9.27) E15(-10,9.27) E16(-12,9.27) E17(-14,9.27) E18(-16,9.27) E19(-18,9.27) F1(18,11.27) F2(16,11.27) F3(14,11.27) F4(12,11.27) F5(10,11.27) F6(8,11.27) F7(6,11.27) F8(4,11.27) F9(2,11.27) F10(0,11.27) F11(-2,11.27) F12(-4,11.27) F13(-6,11.27) F14(-8,11.27) F15(-10,11.27) F16(-12,11.27) F17(-14,11.27) F18(-16,11.27) F19(-18,11.27)
Top Overlay:
  lines w0.254: -18.872,11.176 -18.872,-9.296 -3.153,-9.296 ; -3.153,-0.824 -3.153,-9.296 ; -3.1,-0.83 3.1,-0.83 ; -2.5,-9.296 -3.153,-9.296 ; -2.5,-0.93 -2.5,-10.33 -0.5,-12.33 0.5,-12.33 2.5,-10.33 2.5,-1.03 ; 2.5,-9.296 3.128,-9.296 ; 3.128,-0.824 3.128,-9.296 ; 18.847,11.176 18.847,-9.296 3.128,-9.296
Mechanical 1:
  lines w0.051: -18.789,-0.23 18.789,-0.23
Mechanical 16:
  lines w0.254: -18.872,11.176 18.847,11.176

## 1635-110 [mm]
pads (132):
  round 0.9 hole 0.6: A1(21,1.27) A2(19,1.27) A3(17,1.27) A4(15,1.27) A5(13,1.27) A6(11,1.27) A7(9,1.27) A8(7,1.27) A9(5,1.27) A10(3,1.27) A11(1,1.27) A12(-1,1.27) A13(-3,1.27) A14(-5,1.27) A15(-7,1.27) A16(-9,1.27) A17(-11,1.27) A18(-13,1.27) A19(-15,1.27) A20(-17,1.27) A21(-19,1.27) A22(-21,1.27) B1(21,3.27) B2(19,3.27) B3(17,3.27) B4(15,3.27) B5(13,3.27) B6(11,3.27) B7(9,3.27) B8(7,3.27) B9(5,3.27) B10(3,3.27) B11(1,3.27) B12(-1,3.27) B13(-3,3.27) B14(-5,3.27) B15(-7,3.27) B16(-9,3.27) B17(-11,3.27) B18(-13,3.27) B19(-15,3.27) B20(-17,3.27) B21(-19,3.27) B22(-21,3.27) C1(21,5.27) C2(19,5.27) C3(17,5.27) C4(15,5.27) C5(13,5.27) C6(11,5.27) C7(9,5.27) C8(7,5.27) C9(5,5.27) C10(3,5.27) C11(1,5.27) C12(-1,5.27) C13(-3,5.27) C14(-5,5.27) C15(-7,5.27) C16(-9,5.27) C17(-11,5.27) C18(-13,5.27) C19(-15,5.27) C20(-17,5.27) C21(-19,5.27) C22(-21,5.27) D1(21,7.27) D2(19,7.27) D3(17,7.27) D4(15,7.27) D5(13,7.27) D6(11,7.27) D7(9,7.27) D8(7,7.27) D9(5,7.27) D10(3,7.27) D11(1,7.27) D12(-1,7.27) D13(-3,7.27) D14(-5,7.27) D15(-7,7.27) D16(-9,7.27) D17(-11,7.27) D18(-13,7.27) D19(-15,7.27) D20(-17,7.27) D21(-19,7.27) D22(-21,7.27) E1(21,9.27) E2(19,9.27) E3(17,9.27) E4(15,9.27) E5(13,9.27) E6(11,9.27) E7(9,9.27) E8(7,9.27) E9(5,9.27) E10(3,9.27) E11(1,9.27) E12(-1,9.27) E13(-3,9.27) E14(-5,9.27) E15(-7,9.27) E16(-9,9.27) E17(-11,9.27) E18(-13,9.27) E19(-15,9.27) E20(-17,9.27) E21(-19,9.27) E22(-21,9.27) F1(21,11.27) F2(19,11.27) F3(17,11.27) F4(15,11.27) F5(13,11.27) F6(11,11.27) F7(9,11.27) F8(7,11.27) F9(5,11.27) F10(3,11.27) F11(1,11.27) F12(-1,11.27) F13(-3,11.27) F14(-5,11.27) F15(-7,11.27) F16(-9,11.27) F17(-11,11.27) F18(-13,11.27) F19(-15,11.27) F20(-17,11.27) F21(-19,11.27) F22(-21,11.27)
Top Overlay:
  lines w0.254: -21.872,11.176 -21.872,-9.296 -3.153,-9.296 ; -3.153,-0.824 -3.153,-9.296 ; -3.1,-0.83 3.1,-0.83 ; -2.5,-0.93 -2.5,-9.296 ; 2.5,-1.03 2.5,-9.296 ; 3.128,-0.824 3.128,-9.296 ; 21.847,11.176 21.847,-9.296 3.128,-9.296 ; -3.153,-9.296 -2.5,-9.296 ; -2.5,-9.296 -2.5,-10.33 -0.5,-12.33 0.5,-12.33 2.5,-10.33 2.5,-9.296 ; 2.5,-9.296 3.128,-9.296
Mechanical 1:
  lines w0.051: -21.789,-0.23 21.789,-0.23
Mechanical 16:
  lines w0.254: -21.872,11.176 21.847,11.176

## 1635-125 [mm]
pads (150):
  round 0.9 hole 0.6: A1(24,1.27) A2(22,1.27) A3(20,1.27) A4(18,1.27) A5(16,1.27) A6(14,1.27) A7(12,1.27) A8(10,1.27) A9(8,1.27) A10(6,1.27) A11(4,1.27) A12(2,1.27) A13(0,1.27) A14(-2,1.27) A15(-4,1.27) A16(-6,1.27) A17(-8,1.27) A18(-10,1.27) A19(-12,1.27) A20(-14,1.27) A21(-16,1.27) A22(-18,1.27) A23(-20,1.27) A24(-22,1.27) A25(-24,1.27) B1(24,3.27) B2(22,3.27) B3(20,3.27) B4(18,3.27) B5(16,3.27) B6(14,3.27) B7(12,3.27) B8(10,3.27) B9(8,3.27) B10(6,3.27) B11(4,3.27) B12(2,3.27) B13(0,3.27) B14(-2,3.27) B15(-4,3.27) B16(-6,3.27) B17(-8,3.27) B18(-10,3.27) B19(-12,3.27) B20(-14,3.27) B21(-16,3.27) B22(-18,3.27) B23(-20,3.27) B24(-22,3.27) B25(-24,3.27) C1(24,5.27) C2(22,5.27) C3(20,5.27) C4(18,5.27) C5(16,5.27) C6(14,5.27) C7(12,5.27) C8(10,5.27) C9(8,5.27) C10(6,5.27) C11(4,5.27) C12(2,5.27) C13(0,5.27) C14(-2,5.27) C15(-4,5.27) C16(-6,5.27) C17(-8,5.27) C18(-10,5.27) C19(-12,5.27) C20(-14,5.27) C21(-16,5.27) C22(-18,5.27) C23(-20,5.27) C24(-22,5.27) C25(-24,5.27) D1(24,7.27) D2(22,7.27) D3(20,7.27) D4(18,7.27) D5(16,7.27) D6(14,7.27) D7(12,7.27) D8(10,7.27) D9(8,7.27) D10(6,7.27) D11(4,7.27) D12(2,7.27) D13(0,7.27) D14(-2,7.27) D15(-4,7.27) D16(-6,7.27) D17(-8,7.27) D18(-10,7.27) D19(-12,7.27) D20(-14,7.27) D21(-16,7.27) D22(-18,7.27) D23(-20,7.27) D24(-22,7.27) D25(-24,7.27) E1(24,9.27) E2(22,9.27) E3(20,9.27) E4(18,9.27) E5(16,9.27) E6(14,9.27) E7(12,9.27) E8(10,9.27) E9(8,9.27) E10(6,9.27) E11(4,9.27) E12(2,9.27) E13(0,9.27) E14(-2,9.27) E15(-4,9.27) E16(-6,9.27) E17(-8,9.27) E18(-10,9.27) E19(-12,9.27) E20(-14,9.27) E21(-16,9.27) E22(-18,9.27) E23(-20,9.27) E24(-22,9.27) E25(-24,9.27) F1(24,11.27) F2(22,11.27) F3(20,11.27) F4(18,11.27) F5(16,11.27) F6(14,11.27) F7(12,11.27) F8(10,11.27) F9(8,11.27) F10(6,11.27) F11(4,11.27) F12(2,11.27) F13(0,11.27) F14(-2,11.27) F15(-4,11.27) F16(-6,11.27) F17(-8,11.27) F18(-10,11.27) F19(-12,11.27) F20(-14,11.27) F21(-16,11.27) F22(-18,11.27) F23(-20,11.27) F24(-22,11.27) F25(-24,11.27)
Top Overlay:
  lines w0.254: -24.872,11.176 -24.872,-9.296 -3.153,-9.296 ; -3.153,-0.824 -3.153,-9.296 ; -3.1,-0.83 3.1,-0.83 ; -2.5,-0.93 -2.5,-9.296 ; 2.5,-1.03 2.5,-9.296 ; 3.128,-0.824 3.128,-9.296 ; 24.847,11.176 24.847,-9.296 3.128,-9.296 ; -3.153,-9.296 -2.5,-9.296 ; -2.5,-9.296 -2.5,-10.33 -0.5,-12.33 0.5,-12.33 2.5,-10.33 2.5,-9.296 ; 2.5,-9.296 3.128,-9.296
Mechanical 1:
  lines w0.051: -24.789,-0.23 24.789,-0.23
Mechanical 16:
  lines w0.254: -24.872,11.176 24.847,11.176